# EAGLE library part ATTINY13 (library CEDTv79)
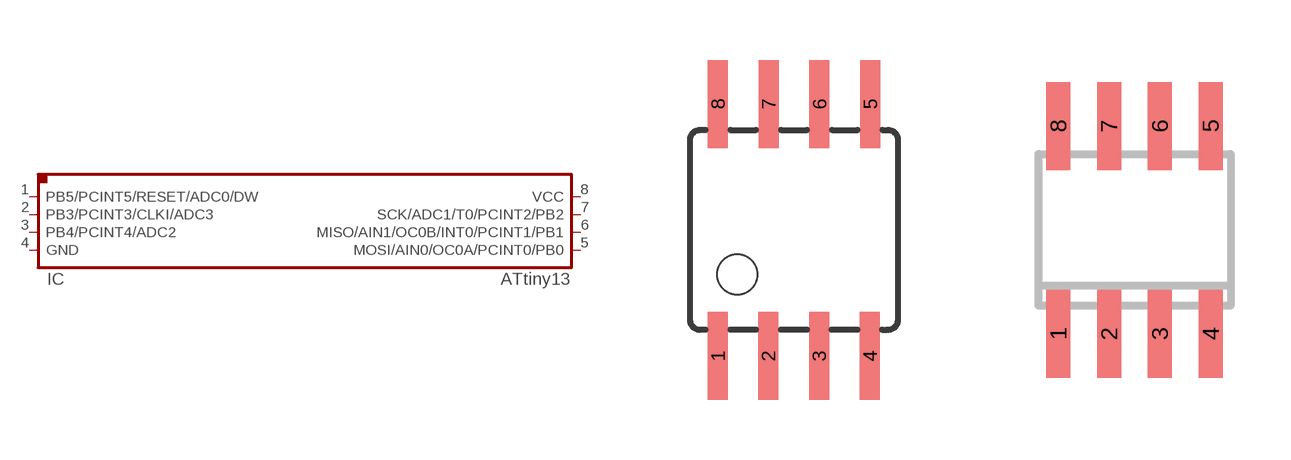
[diagram p17: symbol with the pads of SOIC8; footprints SOIC8, SO08]

Designator prefix IC

## ATTINY13SI  [SOIC8]
1  PB5/PCINT5/RESET/ADC0/DW
2  PB3/PCINT3/CLKI/ADC3
3  PB4/PCINT4/ADC2
4  GND
5  MOSI/AIN0/OC0A/PCINT0/PB0
6  MISO/AIN1/OC0B/INT0/PCINT1/PB1
7  SCK/ADC1/T0/PCINT2/PB2
8  VCC

## ATTINY13SSI  [SO08]
Pads as for SOIC8

## Footprint SOIC8 (pad centres in mm)
Wide Plastic Gull Wing Small Outline Package
smd 0.5 x 2.2: 1 -1.905,-3.154; 2 -0.645,-3.154; 3 0.625,-3.154; 4 1.895,-3.154; 5 1.905,3.154; 6 0.635,3.154; 7 -0.635,3.154; 8 -1.905,3.154

## Footprint SO08 (pad centres in mm)
Small Outline Package 8 NS Package M08A
smd 0.6 x 2.2: 1 -1.905,-2.6; 2 -0.635,-2.6; 3 0.635,-2.6; 4 1.905,-2.6; 5 1.905,2.6; 6 0.635,2.6; 7 -0.635,2.6; 8 -1.905,2.6